# EAGLE library part IC_TLV3012 (library node4)
TLV3012 Nano power comparator with voltage reference
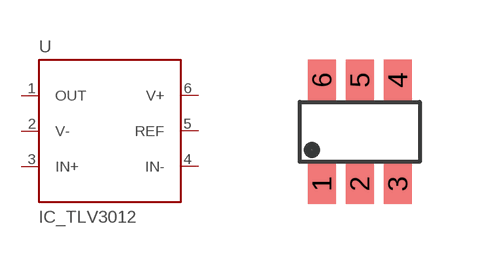
[diagram p4: symbol with the pads of SOT23-6; footprint SOT23-6]

Designator prefix -

## IC_TLV3012  [SOT23-6]
1  OUT  out
2  V-  pwr
3  IN+  in
4  IN-  in
5  REF  out
6  V+  pwr

## Footprint SOT23-6 (pad centres in mm)
smd 0.7 x 1: 1 -0.95,-1.3; 2 0,-1.3; 3 0.95,-1.3; 4 0.95,1.3; 5 0,1.3; 6 -0.95,1.3